# Altium footprint library 3.20-未分类器件.PcbLib: 50 footprints (part 3 of 4)
Each footprint in its own frame and in the unit in brackets; x right, y up, seen from the top. Pads: shape width x height; smd on the part's side, far side on the other; paste and mask are expansions set on the pad; w line width, h text height; cw(c..) or ccw(c..) is an arc to the next point about the centre after c.
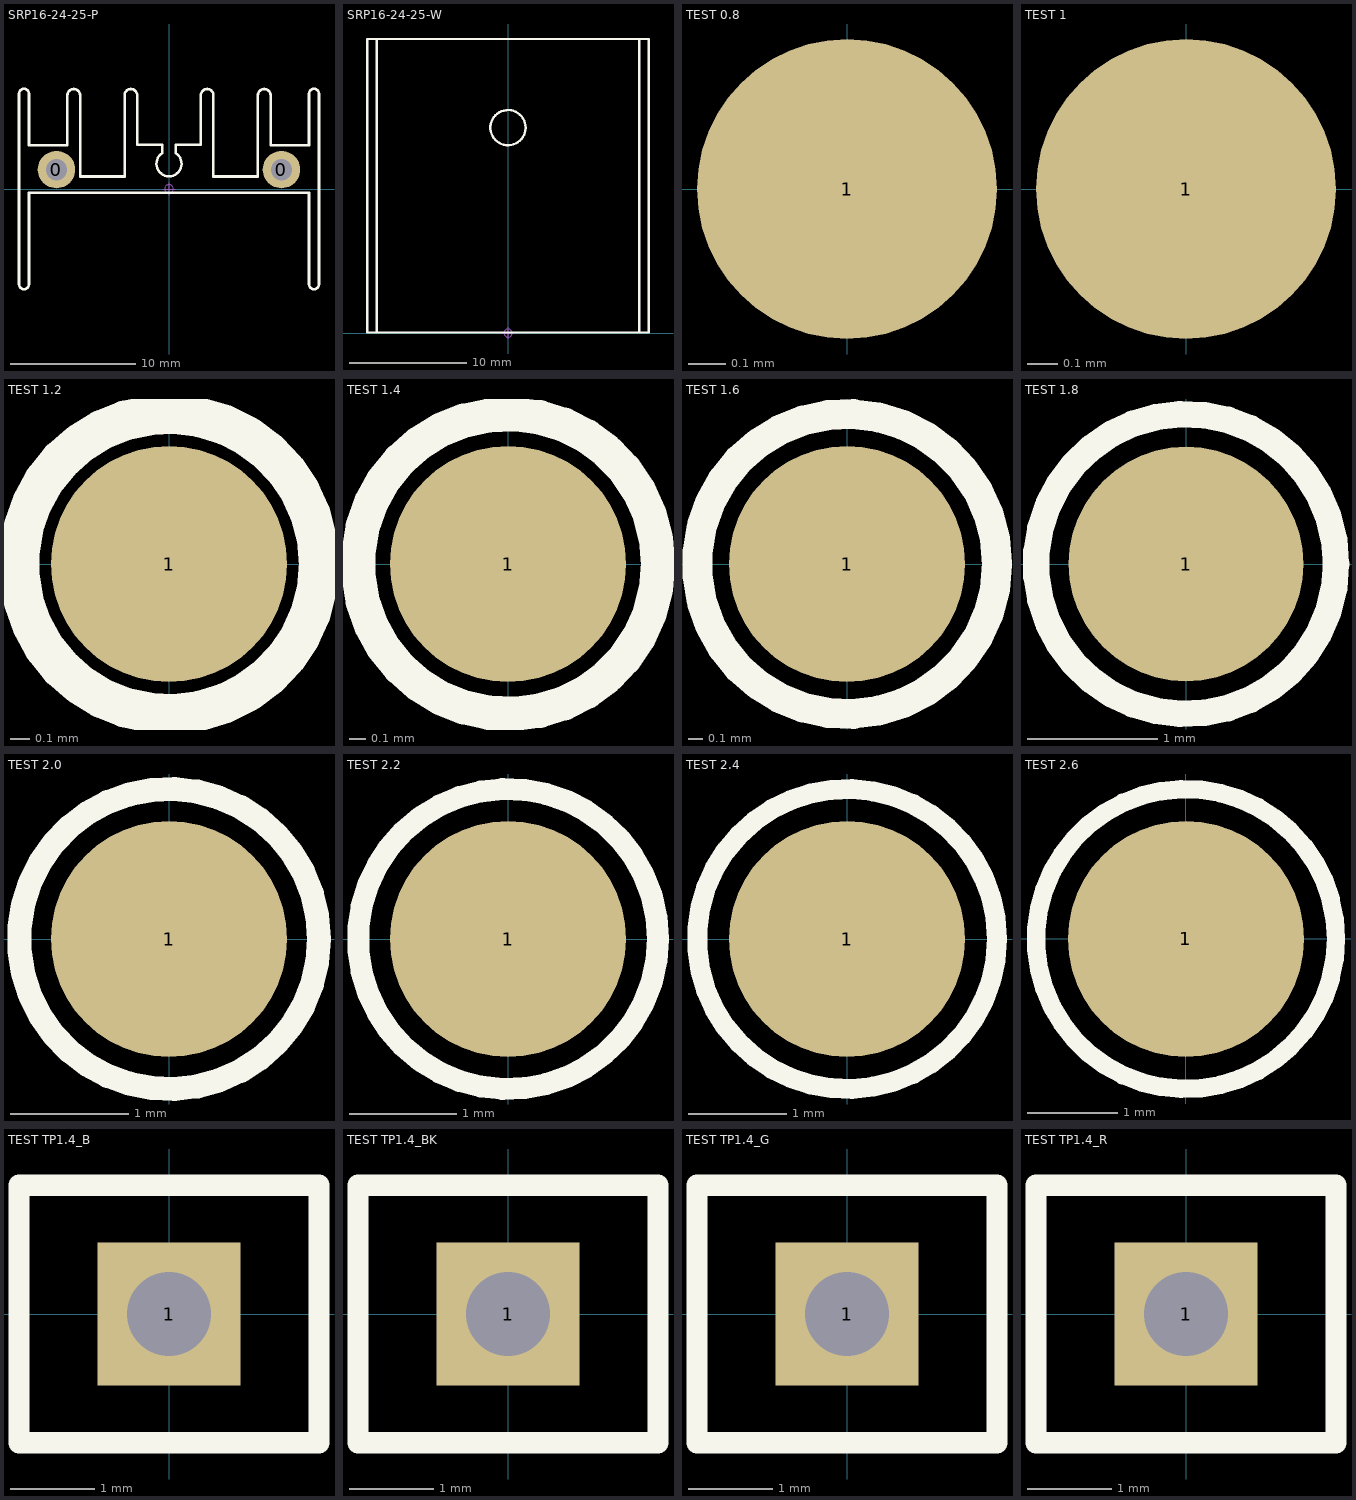
[diagram p2: the footprints below, top view; thin cyan lines are the x and y axes]

## SRP16-24-25-P [mm] "16mm*24mm*25mm(长*宽*高)      [ PCB学习群514746572 ]"
pads (2):
  round 3 hole 1.7 unplated: 0(-9,1.55) 0(9,1.55)
Top Overlay:
  lines w0.203: -12,-7.62 ccw(c-11.6,-7.62) -11.2,-7.62 -11.2,-0.3 11.2,-0.3 11.2,-7.62 ccw(c11.6,-7.62) 12,-7.62 12,-0.3 12,7.62 ccw(c11.6,7.62) 11.2,7.62 11.2,3.5 8.128,3.5 8.128,7.492 ccw(c7.62,7.491) 7.112,7.492 7.112,1 3.556,1 3.556,7.492 ccw(c3.048,7.491) 2.54,7.492 2.54,3.556 0.53,3.556 0.53,2.879 cw(c0,2.023) -0.53,2.879 -0.53,3.556 -2.54,3.556 -2.54,7.492 ccw(c-3.048,7.491) -3.556,7.492 -3.556,1 -7.112,1 -7.112,7.493 ccw(c-7.62,7.492) -8.128,7.493 -8.128,3.5 -11.2,3.5 -11.2,7.62 ccw(c-11.6,7.62) -12,7.62 -12,-0.3 -12,-7.62
Mechanical 15:
  circle w0.05: c0,0 r0.35
  lines w0.05: -0.5,0 0.5,0 ; 0,-0.5 0,0.5
3D body "SRP16-24-25-p.STEP": height 2.95, standoff -25.55, extent -12,-8 12,8

## SRP16-24-25-W [mm] "16mm*24mm*25mm(长*宽*高)      [ PCB学习群514746572 ]"
Top Overlay:
  circle w0.203: c0,17.5 r1.5
  lines w0.203: -11.176,0.05 -11.176,25.05 ; 11.176,0.05 11.176,25.05 ; -12,0.05 -12,25.05 12,25.05 12,0.05 -12,0.05
Mechanical 15:
  circle w0.05: c0,0 r0.35
  lines w0.05: -0.5,0 0.5,0 ; 0,-0.5 0,0.5
3D body "SRP16-24-25-w.STEP": height 16.05, standoff 0.05, extent -12,0.1 12,25.1

## TEST 0.8 [mm] "测试点0.8mm      [ PCB学习群514746572 ]"
pads (1):
  round 0.8 smd: 1(0,0)

## TEST 1 [mm] "测试点1mm      [ PCB学习群514746572 ]"
pads (1):
  round 1 smd paste-1: 1(0,0)

## TEST 1.2 [mm] "测试点1.2mm      [ PCB学习群514746572 ]"
pads (1):
  round 1.2 smd paste-1.2: 1(0,0)
Top Overlay:
  circle w0.203: c0,0 r0.762

## TEST 1.4 [mm] "测试点1.4mm      [ PCB学习群514746572 ]"
pads (1):
  round 1.4 smd paste-1.4: 1(0,0)
Top Overlay:
  circle w0.203: c0,0 r0.889

## TEST 1.6 [mm] "测试点1.6mm      [ PCB学习群514746572 ]"
pads (1):
  round 1.6 smd paste-1.6: 1(0,0)
Top Overlay:
  circle w0.203: c0,0 r1.016

## TEST 1.8 [mm] "测试点1.8mm      [ PCB学习群514746572 ]"
pads (1):
  round 1.8 smd paste-1.8: 1(0,0)
Top Overlay:
  circle w0.203: c0,0 r1.15

## TEST 2.0 [mm] "测试点2.0mm      [ PCB学习群514746572 ]"
pads (1):
  round 2 smd paste-2: 1(0,0)
Top Overlay:
  circle w0.203: c0,0 r1.27

## TEST 2.2 [mm] "测试点2.2mm      [ PCB学习群514746572 ]"
pads (1):
  round 2.2 smd paste-2.2: 1(0,0)
Top Overlay:
  circle w0.203: c0,0 r1.397

## TEST 2.4 [mm] "测试点2.4mm      [ PCB学习群514746572 ]"
pads (1):
  round 2.4 smd paste-2.4: 1(0,0)
Top Overlay:
  circle w0.203: c0,0 r1.524

## TEST 2.6 [mm] "测试点2.6mm      [ PCB学习群514746572 ]"
pads (1):
  round 2.6 smd paste-2.6: 1(0,0)
Top Overlay:
  circle w0.203: c0,0 r1.651

## TEST TP1.4_B [mm] "蓝色，测试环      [ PCB学习群514746572 ]"
pads (1):
  rect 1.7x1.7 hole 1: 1(0,0)
Top Overlay:
  lines w0.254: -1.778,-1.524 -1.778,1.524 1.778,1.524 1.778,-1.524 -1.778,-1.524
3D body "TEST 3.5R_B.STEP": height 5.41, standoff -3.15, extent -1.673,-1.4 1.673,1.4

## TEST TP1.4_BK [mm] "黑色，测试环      [ PCB学习群514746572 ]"
pads (1):
  rect 1.7x1.7 hole 1: 1(0,0)
Top Overlay:
  lines w0.254: -1.778,-1.524 1.778,-1.524 1.778,1.524 -1.778,1.524 -1.778,-1.524
3D body "TEST_3.5r_bk.STEP": height 2.75, standoff -5.81, extent -1.673,-1.4 1.674,1.4

## TEST TP1.4_G [mm] "绿色，测试环      [ PCB学习群514746572 ]"
pads (1):
  rect 1.7x1.7 hole 1: 1(0,0)
Top Overlay:
  lines w0.254: -1.778,-1.524 -1.778,1.524 1.778,1.524 1.778,-1.524 -1.778,-1.524
3D body "TEST_3.5R_g.STEP": height 5.41, standoff -3.15, extent -1.673,-1.4 1.673,1.4

## TEST TP1.4_R [mm] "红色，测试环      [ PCB学习群514746572 ]"
pads (1):
  rect 1.7x1.7 hole 1: 1(0,0)
Top Overlay:
  lines w0.254: -1.778,-1.524 -1.778,1.524 1.778,1.524 1.778,-1.524 -1.778,-1.524
3D body "TEST_3.5R_R.STEP": height 5.41, standoff -3.15, extent -1.673,-1.4 1.673,1.4